# Altium schematic symbol library sym-0014.SchLib: 1 symbol
Pins are listed as number, name and electrical type; pins without a type are passive.

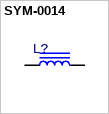
[diagram p0: symbol SYM-0014]

## SYM-0014
designator L?
Core Inductor
pins: 1, 2